# Altium schematic symbol library SN74LV1T34.SchLib: 1 symbol
Pins are listed as number, name and electrical type; pins without a type are passive.

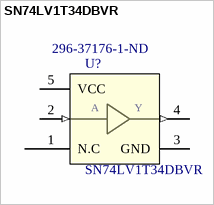
[diagram p0: symbol SN74LV1T34DBVR]

## SN74LV1T34DBVR
designator U?  Supplier Part Number 1: 296-37176-1-ND
Single Power Supply BUFFER Logic Level Shifter _no enable_ 5-SOT-23 -40 to 125; MF: Texas Instruments; Number of Elements: 1; Logic Function: Buffer,Inverting; Max Supply Voltage: 5.5V; Min Supply Voltage: 1.6V; High Level Output Current: -8mA; Low Level Output Current: 8mA; Polarity: Non-Inverting; Propagation Delay: 15.5ns; Quiescent Current: 1uA; SnapEDA_Link: https://www.snapeda.com/parts/SN74LV1T34DBVR/Texas%20Instruments/view-part/?ref=snap; MP: SN74LV1T34DBVR; Package: SOT-23 Texas Instruments; Digi-Key_Purchase_URL: https://www.digikey.ca/product-detail/en/texas-instruments/SN74LV1T34DBVR/296-37176-1-ND/4555593?utm_source=snapeda&utm_medium=aggregator&utm_campaign=symbol; Digi-Key_Part_Number: 296-37176-1-ND; Value: *; Supplier 1: Digi-Key; Manufacturer: Texas Instruments; Manufacturer Part Number: SN74LV1T34DBVR; Stock 1: 39936; Pricing 1: 1=0.47, 10=0.378, 100=0.2571, 500=0.19282, 1000=0.14461 (USD); Mount: Surface Mount; Case/Package: SOT-23-5; Number of Pins: 5; Weight: 0.000353oz; Min Operating Temperature: -40°C; Max Operating Temperature: 125°C; Package Quantity: 3000; Packaging: Tape and Reel; Number of Bits per Element: 1; Number of Input Lines: 1; Number of Output Lines: 1; Operating Supply Current: 8mA; Number of Channels: 1; Number of Inputs: 1; Number of Outputs: 1; Number of Bits: 1; Radiation Hardening: No; REACH SVHC: No SVHC; Lead Free: Lead Free; ComponentLink1URL: http://www.ti.com/lit/pdf/sdyu001?src-supplier=Digi-Key; ComponentLink1Description: http://www.ti.com/lit/pdf/sdyu001?src-supplier=Digi-Key; ComponentLink2URL: http://www.ti.com/lit/ds/symlink/sn74lv1t34.pdf?src-supplier=Avnet; ComponentLink2Description: http://www.ti.com/lit/ds/symlink/sn74lv1t34.pdf?src-supplier=Avnet
footprint SOT95P280X145-5N (Logic Level Shifter (Single Buffer))
pins: 1 N.C, 2 A (in), 3 GND (power), 4 Y (out), 5 VCC (power)